# EAGLE library part CC3000_PROGRAMMER_MATED (library SMORSE_Chao)
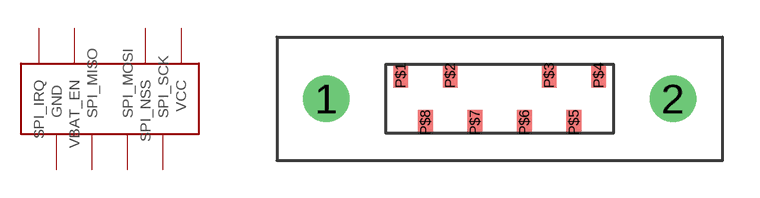
[diagram p14: symbol with the pads of AVX_9188_8-WAY_SMD_GUIDED; footprint AVX_9188_8-WAY_SMD_GUIDED]

Designator prefix -

## CC3000_PROGRAMMER_MATED  [AVX_9188_8-WAY_SMD_GUIDED]
P$1  VCC  pwr
P$2  SPI_NSS
P$3  VBAT_EN  pas
P$4  SPI_IRQ
P$5  GND  pwr
P$6  SPI_MISO
P$7  SPI_MOSI
P$8  SPI_SCK

## Footprint AVX_9188_8-WAY_SMD_GUIDED (pad centres in mm)
drill 1.016 pad 1.88: 1 -7,0; 2 7,0
smd 0.6 x 1: P$1 -4,0.95; P$2 -2,0.95; P$3 2,0.95; P$4 4,0.95; P$5 3,-0.95; P$6 1,-0.95; P$7 -1,-0.95; P$8 -3,-0.95